# EAGLE library part 658107303064 (library WR-BTB)
WR-BTB Board to Board Characteristics Insulator flammability rating: UL94 V-0 Defined board to board distance from 5.00 mm up to 16.00 mm Available pin-counts: 64 pins (1.0 mm version) / 40, 80 or 100 pins (0.8 mm version) Contact plating: selective gold Operating temperature: -55 °C up to +85 °C Quality class: 30 mating cycles Contact resistance: 30 mΩ Working Voltage: 100 V (AC) UL approval: E323964 Applications Board-to-board connection for secure and fast data connections Defined PCB spacing In conjunction with SMT spacers or threaded spacers, a stable connection of stacked PCBs. <https://www.we-online.com/components/media/o790799v209%20WR-BTB_Gruppe.jpg> Details see: www.we-online.com/en/components/products/WR_BTB <www.we-online.com/catalog/WR_BTB/?utm_source=eagle_model&utm_medium=description_link&utm_campaign=eisos_eagle> Updated by Ella 2025-05-14 2025(C) Würth Elektronik
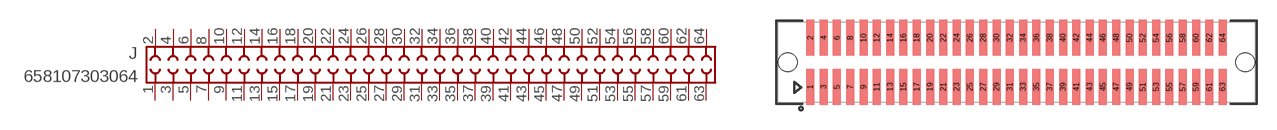
[diagram p20: symbol with the pads of 658107303064; footprint 658107303064]

Designator prefix J

## 658107303064 (DATASHEET-URL: https://www.we-online.com/redexpert/spec/658107303064?ae; GENDER: Female Receptacle; HEIGHT: 7.3mm; IR: 1000mA; MOUNT: SMT; PACKAGING: Tape and Reel with Cap; PART-NUMBER: 658107303064; PINS: 64; PITCH: 1mm; TYPE: Vertical; VALUE: 658107303064)  [658107303064]
1  1  pas
2  2  pas
3  3  pas
4  4  pas
5  5  pas
6  6  pas
7  7  pas
8  8  pas
9  9  pas
10  10  pas
11  11  pas
12  12  pas
13  13  pas
14  14  pas
15  15  pas
16  16  pas
17  17  pas
18  18  pas
19  19  pas
20  20  pas
21  21  pas
22  22  pas
23  23  pas
24  24  pas
25  25  pas
26  26  pas
27  27  pas
28  28  pas
29  29  pas
30  30  pas
31  31  pas
32  32  pas
33  33  pas
34  34  pas
35  35  pas
36  36  pas
37  37  pas
38  38  pas
39  39  pas
40  40  pas
41  41  pas
42  42  pas
43  43  pas
44  44  pas
45  45  pas
46  46  pas
47  47  pas
48  48  pas
49  49  pas
50  50  pas
51  51  pas
52  52  pas
53  53  pas
54  54  pas
55  55  pas
56  56  pas
57  57  pas
58  58  pas
59  59  pas
60  60  pas
61  61  pas
62  62  pas
63  63  pas
64  64  pas

## Footprint 658107303064 (pad centres in mm)
WR-BTB Board to Board Pitch: 1.00mm, Receptacle, 64pins, SMT Height = 7.30mm
smd 0.6 x 2.7: 1 -15.5,-1.85; 2 -15.5,1.85; 3 -14.5,-1.85; 4 -14.5,1.85; 5 -13.5,-1.85; 6 -13.5,1.85; 7 -12.5,-1.85; 8 -12.5,1.85; 9 -11.5,-1.85; 10 -11.5,1.85; 11 -10.5,-1.85; 12 -10.5,1.85; 13 -9.5,-1.85; 14 -9.5,1.85; 15 -8.5,-1.85; 16 -8.5,1.85; 17 -7.5,-1.85; 18 -7.5,1.85; 19 -6.5,-1.85; 20 -6.5,1.85; 21 -5.5,-1.85; 22 -5.5,1.85; 23 -4.5,-1.85; 24 -4.5,1.85; 25 -3.5,-1.85; 26 -3.5,1.85; 27 -2.5,-1.85; 28 -2.5,1.85; 29 -1.5,-1.85; 30 -1.5,1.85; 31 -0.5,-1.85; 32 -0.5,1.85; 33 0.5,-1.85; 34 0.5,1.85; 35 1.5,-1.85; 36 1.5,1.85; 37 2.5,-1.85; 38 2.5,1.85; 39 3.5,-1.85; 40 3.5,1.85; 41 4.5,-1.85; 42 4.5,1.85; 43 5.5,-1.85; 44 5.5,1.85; 45 6.5,-1.85; 46 6.5,1.85; 47 7.5,-1.85; 48 7.5,1.85; 49 8.5,-1.85; 50 8.5,1.85; 51 9.5,-1.85; 52 9.5,1.85; 53 10.5,-1.85; 54 10.5,1.85; 55 11.5,-1.85; 56 11.5,1.85; 57 12.5,-1.85; 58 12.5,1.85; 59 13.5,-1.85; 60 13.5,1.85; 61 14.5,-1.85; 62 14.5,1.85; 63 15.5,-1.85; 64 15.5,1.85
hole 1.4 at 17.2,0
hole 1.4 at -17.2,0